# EAGLE library part F-1X07- (library con-headers-jp)
FEMALE HEADER
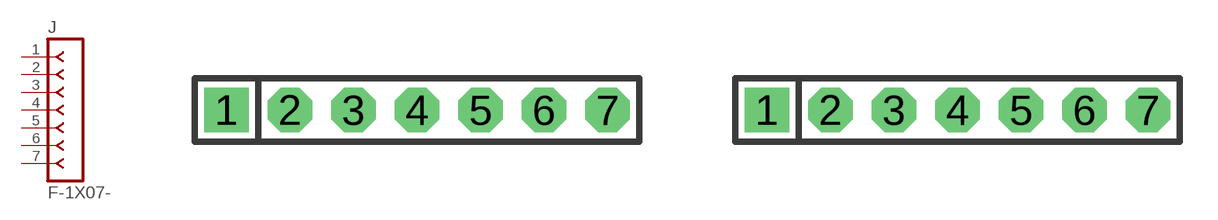
[diagram p21: symbol with the pads of SIP-100-07-40; footprints SIP-100-07-40, SIP-100-07-32]

Designator prefix J

## F-1X07-SIP-100-40  [SIP-100-07-40]
1  1  pas
2  2  pas
3  3  pas
4  4  pas
5  5  pas
6  6  pas
7  7  pas

## F-1X07-SIP-100-32  [SIP-100-07-32]
Pads as for SIP-100-07-40

## F-1X07-SIP-100-32Y  [SIP-100-07-32Y]
Pads as for SIP-100-07-40

## F-1X07-SIP-100-40Y  [SIP-100-07-40Y]
Pads as for SIP-100-07-40

## F-1X07-SIP-050-07  [SIP-050-07]
Pads as for SIP-100-07-40

## Footprint SIP-100-07-40 (pad centres in mm)
SIP Header - 0.1", 40 mil drill
drill 1.016 pad 1.778 square: 1 -7.62,0
drill 1.016 pad 1.778 octagon: 2 -5.08,0; 3 -2.54,0; 4 0,0; 5 2.54,0; 6 5.08,0; 7 7.62,0

## Footprint SIP-100-07-32 (pad centres in mm)
SIP Header - 0.1", 32 mil drill
drill 0.813 pad 1.778 square: 1 -7.62,0
drill 0.813 pad 1.778 octagon: 2 -5.08,0; 3 -2.54,0; 4 0,0; 5 2.54,0; 6 5.08,0; 7 7.62,0

## Footprint SIP-100-07-32Y (pad centres in mm)
SIP Header - 0.1", 32 mil drill
drill 0.813 long: 1 -7.62,0; 2 -5.08,0; 3 -2.54,0; 4 0,0; 5 2.54,0; 6 5.08,0; 7 7.62,0

## Footprint SIP-100-07-40Y (pad centres in mm)
SIP Header - 0.1", 40 mil drill
drill 1.016 long: 1 -7.62,0; 2 -5.08,0; 3 -2.54,0; 4 0,0; 5 2.54,0; 6 5.08,0; 7 7.62,0

## Footprint SIP-050-07 (pad centres in mm)
HEADER
drill 0.508: 1 -3.81,0; 2 -2.54,0; 3 -1.27,0; 4 0,0; 5 1.27,0; 6 2.54,0; 7 3.81,0